# Altium footprint library Connector.PCBLIB: 82 footprints (part 6 of 6)
Each footprint in its own frame and in the unit in brackets; x right, y up, seen from the top. Pads: shape width x height; smd on the part's side, far side on the other; paste and mask are expansions set on the pad; w line width, h text height; cw(c..) or ccw(c..) is an arc to the next point about the centre after c.
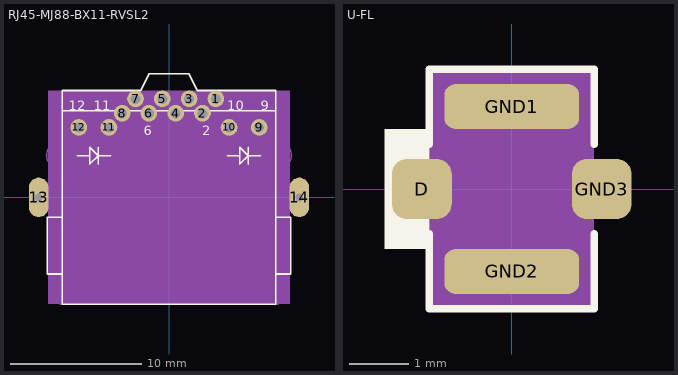
[diagram p5: the footprints below, top view; thin cyan lines are the x and y axes]

## RJ45-MJ88-BX11-RVSL2 [mil]
pads (14):
  round 50 hole 30: 1(140.55,295.28) 2(100.39,251.97) 3(60.24,295.28) 4(20.08,251.97) 5(-20.08,295.28) 6(-60.24,251.97) 7(-100.39,295.28) 8(-140.55,251.97) 9(270.08,209.45) 10(179.92,209.45) 11(-179.92,209.45) 12(-270.08,209.45)
  oval 59.06x118.12 hole 23.62: 13(-390.55,0) 14(390.55,0)
Top Overlay:
  lines w5: -275,125 -237.5,125 ; -212.5,100 -212.5,125 ; -212.5,150 -212.5,125 ; -175,125 -212.5,125 ; 175,125 212.5,125 ; 237.5,100 237.5,125 ; 237.5,150 237.5,125 ; 275,125 237.5,125 ; -320,-230 -320,-320 320,-320 320,-230 ; -320,-230 -320,-60 ; -320,-230 -365,-230 -365,-60 -320,-60 ; -320,-60 -320,260 ; -320,260 -320,320 -85,320 -60,370 60,370 85,320 320,320 320,260 ; -320,260 320,260 ; -237.5,125 -237.5,150 -212.5,125 ; -237.5,125 -237.5,100 -212.5,125 ; 212.5,125 212.5,150 237.5,125 ; 212.5,125 212.5,100 237.5,125 ; 320,-230 320,-60 ; 320,-230 365,-230 365,-60 320,-60 ; 320,-60 320,260
  text "2" at 100,175 h49.6
  text "6" at -75,175 h49.6
  text "10" at 175,250 h49.6
  text "9" at 275,250 h49.6
  text "12" at -300,250 h49.6
  text "11" at -225,250 h49.6
Mechanical 11:
  region: 0,0 10,0 10,10 0,10
  lines w27.56: -390.55,-35.43 -390.55,35.43 ; 390.55,-35.43 390.55,35.43
  text "Slot Drills" at -450,-125 h49.6
  text "Slot Drills" at 475,-125 h49.6
  text "Slot Hole for convex part" at -325,-375 h49.6
Mechanical 14:
  lines w5: -366.93,125.98 ccw(c-327.56,125.98) -327.56,86.61 -327.56,-320 327.56,-320 327.56,86.61 ccw(c327.56,125.98) 366.93,125.98 ccw(c327.56,125.98) 327.56,165.35 -327.56,165.35 ccw(c-327.56,125.98) -366.93,125.98
Mechanical 27:
  rectangle: -363.19,-320 363.19,320

## U-FL [mil]
pads (4):
  rrect50% 40x40 smd: D(-60,0) GND3(60,0)
  rrect50% 90x30 smd: GND1(0,55) GND2(0,-55)
Top Overlay:
  rectangle: -85,-40 -55,40
  lines w5: -55,-30 -55,-80 55,-80 55,-30 ; -55,30 -55,80 55,80 55,30
Mechanical 27:
  rectangle: -55,-80 55,80